# Altium schematic symbol library BAS32L,115.SchLib: 1 symbol
Pins are listed as number, name and electrical type; pins without a type are passive.

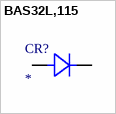
[diagram p0: symbol BAS32L,115]

## BAS32L,115
designator CR?
Diode Standard 75 V 200mA (DC) Surface Mount LLDS; MiniMelf; MF: Nexperia USA; MP: BAS32L,115; SnapEDA_Link: https://www.snapeda.com/parts/BAS32L,115/Nexperia/view-part/?ref=snap; Package: LLDS-2 Nexperia USA Inc.; Value: *; Check_prices: https://www.snapeda.com/parts/BAS32L,115/Nexperia/view-part/?ref=eda
footprint SOD80C
pins: 1 CATHODE, 2 ANODE